# EAGLE library part PBSS4021SPN (library trainlib)
20 V NPN/PNP low VCEsat (BISS) transistor
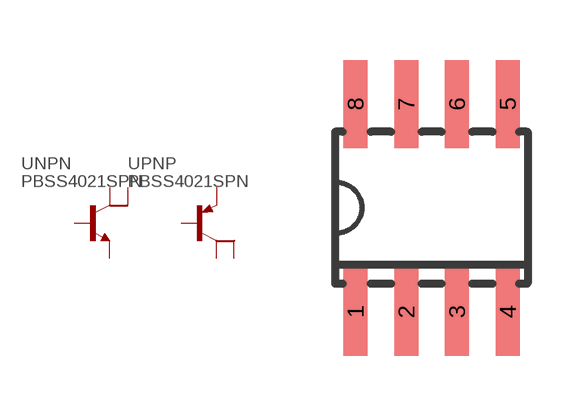
[diagram p6: symbol with the pads of SO-08; footprint SO-08]

Designator prefix -; gates NPN=NPN PNP=PNP

## PBSS4021SPN  [SO-08]
1  NPN:E  pas
2  NPN:B  pas
3  PNP:E  pas
4  PNP:B  pas
5  PNP:C1  pas
6  PNP:C2  pas
7  NPN:C1  pas
8  NPN:C2  pas

## Footprint SO-08 (pad centres in mm)
Small Outline Narrow Plastic Gull Wing 150-mil body, package type SN
smd 0.6 x 2.2: 1 -1.905,-2.6; 2 -0.635,-2.6; 3 0.635,-2.6; 4 1.905,-2.6; 5 1.905,2.6; 6 0.635,2.6; 7 -0.635,2.6; 8 -1.905,2.6